# Altium footprint library 2.21-DFN封装.PcbLib: 15 footprints
Each footprint in its own frame and in the unit in brackets; x right, y up, seen from the top. Pads: shape width x height; smd on the part's side, far side on the other; paste and mask are expansions set on the pad; w line width, h text height; cw(c..) or ccw(c..) is an arc to the next point about the centre after c.
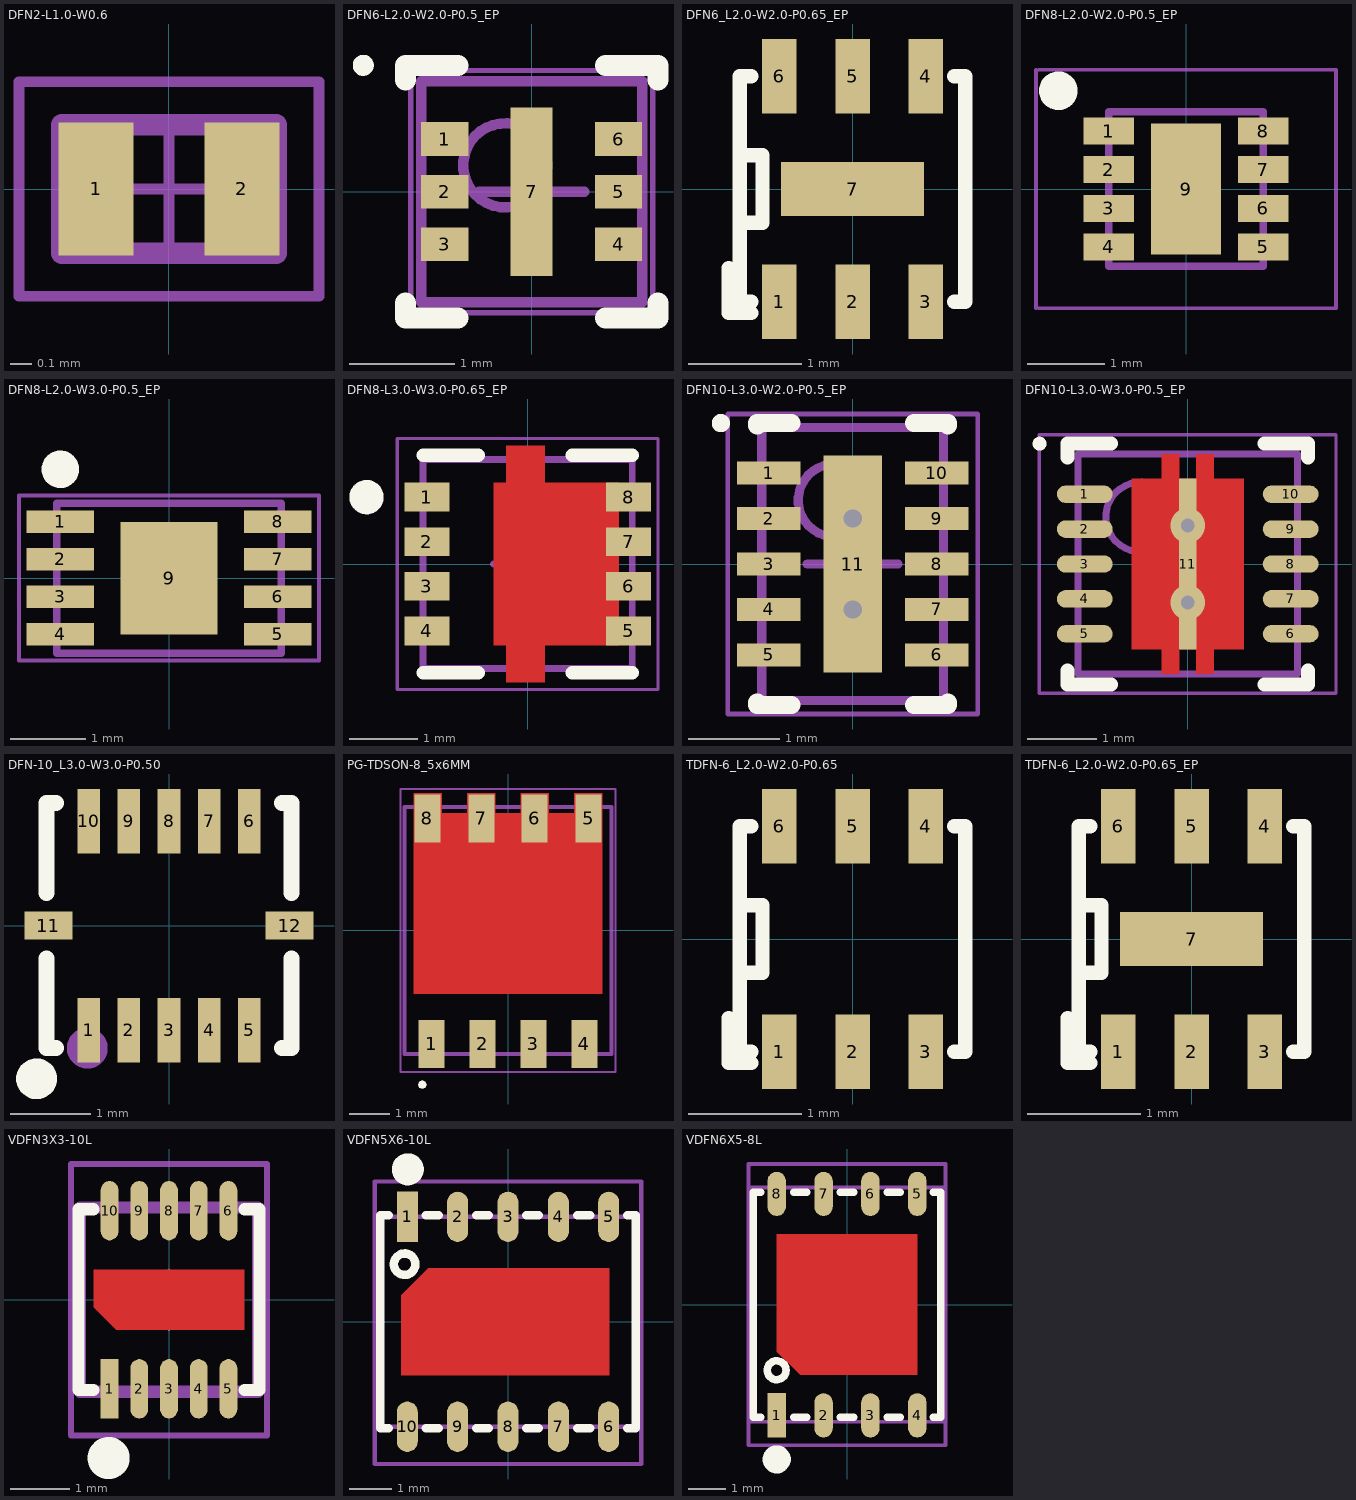
[diagram p0: the footprints below, top view; thin cyan lines are the x and y axes]

## DFN2-L1.0-W0.6 [mm] "DFN, 2-Leads, Body 1.0x0.6x0.4mm"
height 0.4
pads (2):
  rect 0.35x0.62 smd: 1(-0.34,0) 2(0.34,0)
Mechanical 13:
  lines w0.1: -0.5,-0.3 -0.5,0.3 0.5,0.3 0.5,-0.3 -0.5,-0.3
Mechanical 15:
  lines w0.05: -0.3,0 0.3,0 ; 0,-0.3 0,0.3 ; -0.7,-0.5 -0.7,0.5 0.7,0.5 0.7,-0.5 -0.7,-0.5
3D body: height 0.4, standoff 0, extent -0.5,-0.3 0.5,0.3

## DFN6-L2.0-W2.0-P0.5_EP [mm] "DFN, 6-Leads, Body 2x2 mm, Pitch 0.5mm, Thermal Pad 1.6x0.4mm"
height 0.8
pads (7):
  rect 0.45x0.32 smd: 1(-0.825,0.5) 2(-0.825,0) 3(-0.825,-0.5) 4(0.825,-0.5) 5(0.825,0) 6(0.825,0.5)
  rect 0.4x1.6 smd: 7(0,0)
Top Overlay:
  circle w0.1: c-1.6,1.2 r0.05
  lines w0.2: -1.2,-1.06 -1.2,-1.2 -0.7,-1.2 ; -1.2,1.06 -1.2,1.2 -0.7,1.2 ; 0.7,-1.2 1.2,-1.2 1.2,-1.06 ; 0.7,1.2 1.2,1.2 1.2,1.06
Mechanical 13:
  circle w0.1: c-0.25,0.25 r0.4
  lines w0.1: -1.05,-1.05 -1.05,1.05 1.05,1.05 1.05,-1.05 -1.05,-1.05
Mechanical 15:
  lines w0.05: -1.15,-1.15 -1.15,1.15 1.15,1.15 1.15,-1.15 -1.15,-1.15
  lines w0.1: -0.5,0 0.5,0 ; 0,-0.5 0,0.5
3D body: height 0.8, standoff 0, extent -1.06,-1.05 1.06,1.05

## DFN6_L2.0-W2.0-P0.65_EP [mil] "封装库来自淘宝卖家 ID：黄晶宝石"
height 31.5
pads (7):
  rect 12x26 smd: 1(-25.59,-39.37) 2(0,-39.37) 3(25.59,-39.37) 4(25.59,39.37) 5(0,39.37) 6(-25.59,39.37)
  rect 50x19 smd: 7(0,0)
Top Overlay:
  lines w5: -43.31,-27.56 -43.31,-43.31 -35.43,-43.31 ; -39.37,-11.81 -31.5,-11.81 -31.5,11.81 -39.37,11.81 ; -35.43,-39.37 -39.37,-39.37 -39.37,39.37 -35.43,39.37 ; 35.43,-39.37 39.37,-39.37 39.37,39.37 35.43,39.37
3D body: height 39.37, standoff 0, extent -41.38,-40 40,40

## DFN8-L2.0-W2.0-P0.5_EP [mm] "DFN, 8-Leads, Body 2x2mm, Pitch 0.5mm, Thermal Pad 1.7x0.9mm封装库来自淘宝卖家 ID：黄晶宝石"
height 1
pads (9):
  rect 0.65x0.35 smd: 1(-1,0.75) 2(-1,0.25) 3(-1,-0.25) 4(-1,-0.75) 5(1,-0.75) 6(1,-0.25) 7(1,0.25) 8(1,0.75)
  rect 0.9x1.7 smd: 9(0,0)
Top Overlay:
  circle w0.25: c-1.651,1.27 r0.125
Mechanical 13:
  lines w0.1: -1,-1 1,-1 1,1 -1,1 -1,-1
Mechanical 15:
  lines w0.05: -1.94,-1.543 -1.94,1.543 ; -1.905,-1.543 1.94,-1.543 1.94,1.543 -1.905,1.543
  lines w0.1: -0.25,0 0.25,0 ; 0,-0.25 0,0.25
3D body: height 0.75, standoff 0, extent -1,-1 1,1

## DFN8-L2.0-W3.0-P0.5_EP [mm] "DFN, 8-Leads, Body 2x3mm, Pitch 0.5mm, Thermal Pad 1.5x1.3mm               联系卖家 免费查找封装"
height 0.6
pads (9):
  rect 0.9x0.3 smd: 1(-1.45,0.75) 2(-1.45,0.25) 3(-1.45,-0.25) 4(-1.45,-0.75) 5(1.45,-0.75) 6(1.45,-0.25) 7(1.45,0.25) 8(1.45,0.75)
  rect 1.3x1.5 smd: 9(0,0)
Top Overlay:
  circle w0.25: c-1.45,1.45 r0.125
Mechanical 13:
  lines w0.1: -1.5,-1 1.5,-1 1.5,1 -1.5,1 -1.5,-1
Mechanical 15:
  lines w0.05: -2,-1.1 2,-1.1 2,1.1 -2,1.1 -2,-1.1
  lines w0.1: -0.5,0 0.5,0 ; 0,-0.5 0,0.5
3D body: height 0.6, standoff 0, extent -1.5,-1 1.5,1

## DFN8-L3.0-W3.0-P0.65_EP [mm] "DFN, 8-Leads, Body 3.05x3.05mm, Pitch 0.65mm               联系卖家 免费查找封装"
height 0.8
pads (8):
  rect 0.66x0.42 smd: 1(-1.47,0.975) 2(-1.47,0.325) 3(-1.47,-0.325) 4(-1.47,-0.975) 5(1.47,-0.975) 6(1.47,-0.325) 7(1.47,0.325) 8(1.47,0.975)
Top Layer:
  region: 0.25,-1.73 0.25,1.73 -0.32,1.73 -0.32,-1.73
  region: 1.33,-1.185 1.33,1.185 -0.5,1.185 -0.5,-1.185
Top Overlay:
  circle w0.25: c-2.35,0.975 r0.125
  lines w0.2: -1.525,-1.585 -0.72,-1.585 ; -1.525,1.585 -0.72,1.585 ; 0.65,-1.585 1.525,-1.585 ; 0.65,1.585 1.525,1.585
Mechanical 13:
  lines w0.1: -1.525,-1.525 1.525,-1.525 1.525,1.525 -1.525,1.525 -1.525,-1.525
Mechanical 15:
  lines w0.05: -1.9,-1.83 1.9,-1.83 1.9,1.83 -1.9,1.83 -1.9,-1.83
  lines w0.1: -0.5,0 0.5,0 ; 0,-0.5 0,0.5
3D body: height 0.8, standoff 0, extent -1.525,-1.525 1.525,1.525

## DFN10-L3.0-W2.0-P0.5_EP [mm] "DFN, 10-Leads, Body 3x2mm, Pitch 0.5mm, Thermal Pad 2.39x0.64mm               联系卖家 免费查找封装"
height 0.8
pads (11):
  rect 0.7x0.25 smd: 1(-0.925,1) 2(-0.925,0.5) 3(-0.925,0) 4(-0.925,-0.5) 5(-0.925,-1) 6(0.925,-1) 7(0.925,-0.5) 8(0.925,0) 9(0.925,0.5) 10(0.925,1)
  rect 0.64x2.39 smd: 11(0,0)
via 0,0.5 diameter 0.5 hole 0.2
via 0,-0.5 diameter 0.5 hole 0.2
Top Overlay:
  circle w0.1: c-1.45,1.55 r0.05
  lines w0.2: -1.05,-1.525 -1.05,-1.55 -0.675,-1.55 ; -1.05,1.525 -1.05,1.55 -0.675,1.55 ; 0.675,-1.55 1.05,-1.55 1.05,-1.525 ; 0.675,1.55 1.05,1.55 1.05,1.525
Mechanical 13:
  circle w0.1: c-0.2,0.7 r0.4
  lines w0.1: -1,-1.5 -1,1.5 1,1.5 1,-1.5 -1,-1.5
Mechanical 15:
  lines w0.05: -1.375,-1.65 -1.375,1.65 1.375,1.65 1.375,-1.65 -1.375,-1.65
  lines w0.1: -0.5,0 0.5,0 ; 0,-0.5 0,0.5
3D body: height 0.79, standoff -0.01, extent -1.02,-1.5 1,1.5

## DFN10-L3.0-W3.0-P0.5_EP [mm] "DFN, 10-Leads, Body 3x3mm, Pitch 0.5mm, Thermal Pad 2.45x1.6mm               联系卖家 免费查找封装"
height 1
pads (11):
  oval 0.8x0.25 smd: 1(-1.475,1) 2(-1.475,0.5) 3(-1.475,0) 4(-1.475,-0.5) 5(-1.475,-1) 6(1.475,-1) 7(1.475,-0.5) 8(1.475,0) 9(1.475,0.5) 10(1.475,1)
  rect 0.25x2.45 smd paste+0 mask+0: 11(0,0)
via 0,0.55 diameter 0.5 hole 0.2
via 0,-0.55 diameter 0.5 hole 0.2
Top Layer:
  region: -0.8,-1.225 -0.375,-1.225 -0.375,-1.575 -0.125,-1.575 -0.125,-1.225 0.125,-1.225 0.125,-1.575 0.375,-1.575 0.375,-1.225 0.8,-1.225 0.8,1.225 0.375,1.225 0.375,1.575 0.125,1.575 0.125,1.225 -0.125,1.225 -0.125,1.575 -0.375,1.575 -0.375,1.225 -0.8,1.225
Top Overlay:
  circle w0.1: c-2.125,1.725 r0.05
  lines w0.2: -1.725,-1.525 -1.725,-1.725 -1.1,-1.725 ; -1.725,1.525 -1.725,1.725 -1.1,1.725 ; 1.1,-1.725 1.725,-1.725 1.725,-1.525 ; 1.1,1.725 1.725,1.725 1.725,1.525
Mechanical 13:
  circle w0.1: c-0.675,0.675 r0.5
  lines w0.1: -1.575,-1.575 -1.575,1.575 1.575,1.575 1.575,-1.575 -1.575,-1.575
Mechanical 15:
  lines w0.05: -2.125,-1.85 -2.125,1.85 2.125,1.85 2.125,-1.85 -2.125,-1.85
  lines w0.1: -0.5,0 0.5,0 ; 0,-0.5 0,0.5
3D body: height 0.8, standoff 0, extent -1.56,-1.55 1.56,1.55

## DFN-10_L3.0-W3.0-P0.50 [mm] "联系卖家 免费查找封装"
pads (12):
  rect 0.28x0.8 smd: 1(-1,-1.3) 2(-0.5,-1.3) 3(0,-1.3) 4(0.5,-1.3) 5(1,-1.3) 6(1,1.3) 7(0.5,1.3) 8(0,1.3) 9(-0.5,1.3) 10(-1,1.3)
  rect 0.6x0.35 smd: 11(-1.5,0) 12(1.5,0)
Top Overlay:
  circle w0.254: c-1.647,-1.905 r0.127
  lines w0.2: -1.524,-0.406 -1.524,-1.524 -1.406,-1.524 ; -1.524,0.406 -1.524,1.524 -1.406,1.524 ; 1.406,-1.524 1.524,-1.524 1.524,-0.406 ; 1.406,1.524 1.524,1.524 1.524,0.406
Mechanical 15:
  circle w0.254: c-1.016,-1.524 r0.127
3D body: height 1, standoff 0, extent -1.432,-1.551 1.524,1.524

## PG-TDSON-8_5x6MM [mm] "TDSON, 8-Leads, Body 6.15x5.15mm, Pitch 1.27mm"
height 1
pads (8):
  rect 0.65x1.2 smd: 1(-1.905,-2.825) 2(-0.635,-2.825) 3(0.635,-2.825) 4(1.905,-2.825) 5(2.007,2.794) 6(0.66,2.794) 7(-0.66,2.794) 8(-2.007,2.794)
Top Layer:
  region: 0.315,2.925 1.015,2.925 1.015,3.425 0.315,3.425
  region: -1.015,2.925 -0.315,2.925 -0.315,3.425 -1.015,3.425
  region: 1.65,2.925 2.35,2.925 2.35,3.425 1.65,3.425
  region: -2.35,2.925 -1.65,2.925 -1.65,3.425 -2.35,3.425
  region: -2.35,2.925 -2.35,-1.575 2.35,-1.575 2.35,2.925
Top Overlay:
  region: -2.242,-3.842 -2.21,-3.919 -2.134,-3.95 -2.057,-3.919 -2.025,-3.842 -2.057,-3.766 -2.134,-3.734 -2.21,-3.766
Mechanical 13:
  lines w0.1: -2.575,-3.075 2.575,-3.075 2.575,3.075 -2.575,3.075 -2.575,-3.075
Mechanical 15:
  lines w0.05: -2.675,-3.525 2.675,-3.525 2.675,3.525 -2.675,3.525 -2.675,-3.525
  lines w0.1: -0.5,0 0.5,0 ; 0,-0.5 0,0.5
3D body: height 1, standoff 0, extent -2.575,-3.075 2.575,3.075

## TDFN-6_L2.0-W2.0-P0.65 [mil] "联系卖家 免费查找封装"
pads (6):
  rect 12x26 smd: 1(-25.59,-39.37) 2(0,-39.37) 3(25.59,-39.37) 4(25.59,39.37) 5(0,39.37) 6(-25.59,39.37)
Top Overlay:
  lines w5: -43.31,-27.56 -43.31,-43.31 -35.43,-43.31 ; -39.37,-11.81 -31.5,-11.81 -31.5,11.81 -39.37,11.81 ; -35.43,-39.37 -39.37,-39.37 -39.37,39.37 -35.43,39.37 ; 35.43,-39.37 39.37,-39.37 39.37,39.37 35.43,39.37
3D body: height 39.37, standoff 0, extent -41.38,-40 40,40

## TDFN-6_L2.0-W2.0-P0.65_EP [mil] "封装库来自淘宝卖家 ID：黄晶宝石"
height 31.5
pads (7):
  rect 12x26 smd: 1(-25.59,-39.37) 2(0,-39.37) 3(25.59,-39.37) 4(25.59,39.37) 5(0,39.37) 6(-25.59,39.37)
  rect 50x19 smd: 7(0,0)
Top Overlay:
  lines w5: -43.31,-27.56 -43.31,-43.31 -35.43,-43.31 ; -39.37,-11.81 -31.5,-11.81 -31.5,11.81 -39.37,11.81 ; -35.43,-39.37 -39.37,-39.37 -39.37,39.37 -35.43,39.37 ; 35.43,-39.37 39.37,-39.37 39.37,39.37 35.43,39.37
3D body: height 39.37, standoff 0, extent -41.38,-40 40,40

## VDFN3X3-10L [mm] "3mm*3mm*0.5mm(长*宽*脚距）         淘宝ID:黄晶宝石"
pads (10):
  rect 0.3x1 smd: 1(-1,-1.5)
  oval 0.3x1 smd: 2(-0.5,-1.5) 3(0,-1.5) 4(0.5,-1.5) 5(1,-1.5) 6(1,1.5) 7(0.5,1.5) 8(0,1.5) 9(-0.5,1.5) 10(-1,1.5)
Top Layer:
  region: -1.27,0.508 1.27,0.508 1.27,-0.508 -0.889,-0.508 -1.27,-0.127
Top Overlay:
  circle w0.508: c-1.016,-2.667 r0.1
  lines w0.203: -1.27,-1.524 -1.524,-1.524 -1.524,1.524 -1.27,1.524 ; 1.27,-1.524 1.524,-1.524 1.524,1.524 1.27,1.524
Top Solder:
  region: -1.27,0.508 1.27,0.508 1.27,-0.508 -0.889,-0.508 -1.27,-0.127
Mechanical 13:
  lines w0.203: 1.5,-1.55 1.5,1.55 ; -1.5,-1.55 1.5,-1.55 1.5,1.55 -1.5,1.55 -1.5,-1.55
Mechanical 15:
  circle w0.05: c0,0 r0.35
  lines w0.05: -0.5,0 0.5,0 ; 0,-0.5 0,0.5
  lines w0.1: -1.651,-2.286 1.651,-2.286 1.651,2.286 -1.651,2.286 -1.651,-2.286
3D body: height 1.06, standoff 0.03, extent -1.5,-1.55 1.5,1.55

## VDFN5X6-10L [mm] "5mm*6mm*1.2mm(长*宽*脚距）        淘宝ID:黄晶宝石"
pads (10):
  rect 0.5x1.2 smd: 1(-2.4,2.5)
  oval 0.5x1.2 smd: 2(-1.2,2.5) 3(0,2.5) 4(1.2,2.5) 5(2.4,2.5) 6(2.4,-2.5) 7(1.2,-2.5) 8(0,-2.5) 9(-1.2,-2.5) 10(-2.4,-2.5)
Top Layer:
  region: 2.413,1.27 -1.905,1.27 -2.54,0.635 -2.54,-1.27 2.413,-1.27
Top Overlay:
  circle w0.508: c-2.388,3.632 r0.127
  circle w0.203: c-2.464,1.372 r0.255
  lines w0.203: -2.845,-2.54 -3.048,-2.54 -3.048,2.54 -2.845,2.54 ; -1.956,-2.54 -1.651,-2.54 ; -1.956,2.54 -1.651,2.54 ; -0.762,-2.54 -0.457,-2.54 ; -0.762,2.54 -0.457,2.54 ; 0.432,-2.54 0.737,-2.54 ; 0.432,2.54 0.737,2.54 ; 1.651,-2.54 1.956,-2.54 ; 1.651,2.54 1.956,2.54 ; 2.845,-2.54 3.048,-2.54 3.048,2.54 2.845,2.54
Top Solder:
  region: 2.413,1.27 -1.905,1.27 -2.54,0.635 -2.54,-1.27 2.413,-1.27
Mechanical 13:
  lines w0.1: -3,-2.5 -3,2.5 3,2.5 3,-2.5 -3,-2.5
Mechanical 15:
  circle w0.05: c0,0 r0.35
  lines w0.05: -0.5,0 0.5,0 ; 0,-0.5 0,0.5
  lines w0.1: -3.175,-3.389 -3.175,3.342 3.175,3.342 3.175,-3.389 -3.175,-3.389
3D body: height 1.06, standoff 0.03, extent -3,-2.55 3,2.55

## VDFN6X5-8L [mm] "6mm*5mm*1.27mm(长*宽*脚距)          淘宝ID:黄晶宝石"
pads (8):
  rect 0.5x1.2 smd: 1(-1.905,-3)
  oval 0.5x1.2 smd: 2(-0.635,-3) 3(0.635,-3) 4(1.905,-3) 5(1.905,3) 6(0.635,3) 7(-0.635,3) 8(-1.905,3)
Top Layer:
  region: 1.905,-1.905 -1.27,-1.905 -1.905,-1.27 -1.905,1.905 1.905,1.905
Top Overlay:
  circle w0.203: c-1.905,-1.778 r0.255
  circle w0.508: c-1.905,-4.191 r0.127
  lines w0.203: -2.337,-3.048 -2.54,-3.048 -2.54,3.048 -2.337,3.048 ; -1.448,-3.048 -1.092,-3.048 ; -1.448,3.048 -1.092,3.048 ; -0.178,-3.048 0.178,-3.048 ; -0.178,3.048 0.178,3.048 ; 1.092,-3.048 1.448,-3.048 ; 1.092,3.048 1.448,3.048 ; 2.337,-3.048 2.54,-3.048 2.54,3.048 2.337,3.048
Top Solder:
  region: 1.905,-1.905 -1.27,-1.905 -1.905,-1.27 -1.905,1.905 1.905,1.905
Mechanical 13:
  lines w0.1: -2.667,-3.175 2.667,-3.175 2.667,1.905 2.667,3.175 -2.667,3.175 -2.667,-3.175
Mechanical 15:
  circle w0.05: c0,0 r0.35
  lines w0.05: -0.5,0 0.5,0 ; 0,-0.5 0,0.5
  lines w0.1: -2.667,-3.81 2.667,-3.81 2.667,3.81 -2.667,3.81 -2.667,-3.81
3D body: height 1.06, standoff 0.03, extent -2.5,-3.05 2.5,3.05